# Altium footprint library PcbLib1.PcbLib: 17 footprints (part 1 of 2)
Each footprint in its own frame and in the unit in brackets; x right, y up, seen from the top. Pads: shape width x height; smd on the part's side, far side on the other; paste and mask are expansions set on the pad; w line width, h text height; cw(c..) or ccw(c..) is an arc to the next point about the centre after c.
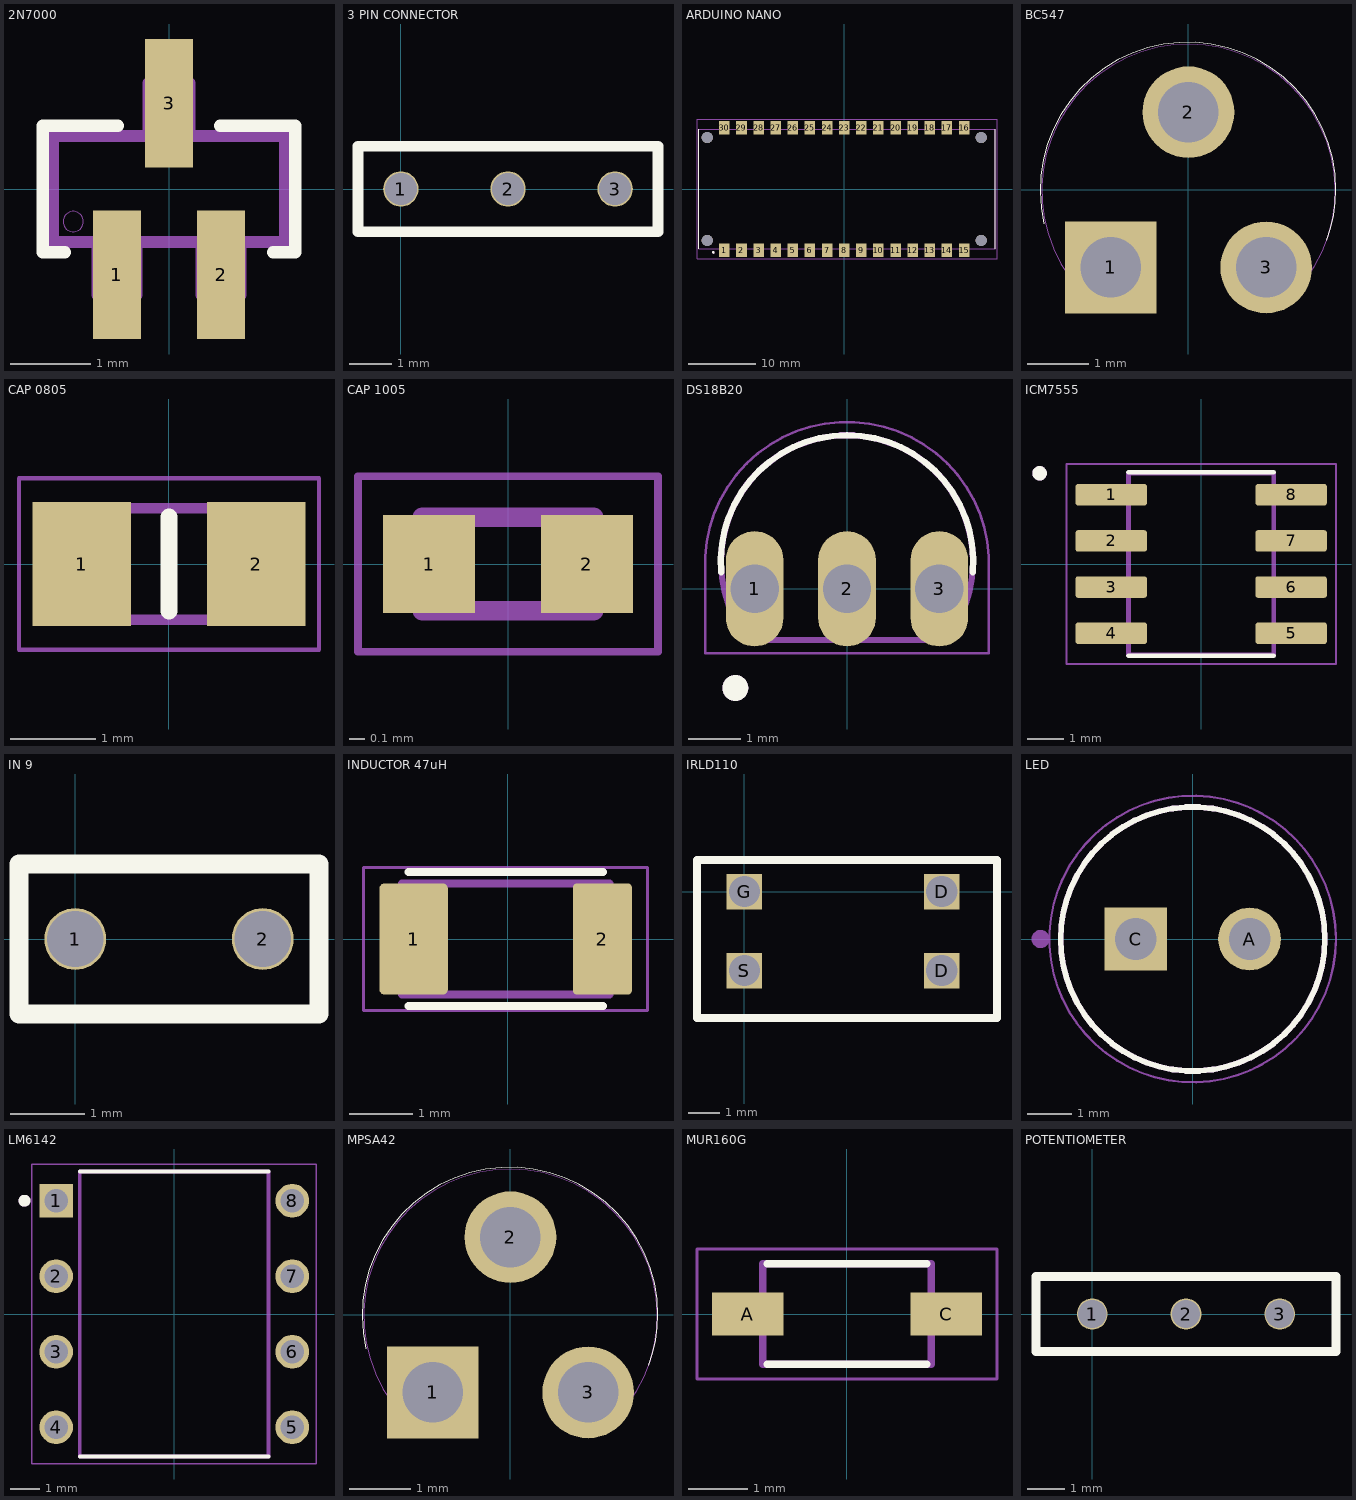
[diagram p0: the footprints below, top view; thin cyan lines are the x and y axes]

## 2N7000 [mm]
pads (3):
  rect 0.6x1.6 smd: 1(-0.65,-1.07) 2(0.65,-1.07) 3(0,1.07)
Top Overlay:
  lines w0.152: -1.295,-0.787 -1.575,-0.787 -1.575,0.787 -0.635,0.787 ; 0.635,0.787 1.575,0.787 1.575,-0.787 1.295,-0.787
Mechanical 13:
  lines w0: -1.321,-0.406 ccw(c-1.194,-0.406) -1.067,-0.406 ccw(c-1.194,-0.406) -1.321,-0.406
  lines w0.152: -1.448,-0.66 1.448,-0.66 1.448,0.66 -1.448,0.66 -1.448,-0.66 ; -0.889,-1.321 -0.889,-0.66 -0.406,-0.66 -0.406,-1.321 -0.889,-1.321 ; -0.254,0.66 0.254,0.66 0.254,1.321 -0.254,1.321 -0.254,0.66 ; 0.406,-1.321 0.406,-0.66 0.889,-0.66 0.889,-1.321 0.406,-1.321

## 3 PIN CONNECTOR [mil]
pads (3):
  round 33 hole 30: 1(0,0) 2(100,0) 3(200,0)
Top Overlay:
  lines w10: -40,-40 -40,40 -30,40 240,40 240,-40 -40,-40

## ARDUINO NANO [mm]
pads (34):
  rect 1.56x2 smd: 1(-17.78,-9.1) 2(-15.24,-9.1) 3(-12.7,-9.1) 4(-10.16,-9.1) 5(-7.62,-9.1) 6(-5.08,-9.1) 7(-2.54,-9.1) 8(0,-9.1) 9(2.54,-9.1) 10(5.08,-9.1) 11(7.62,-9.1) 12(10.16,-9.1) 13(12.7,-9.1) 14(15.24,-9.1) 15(17.78,-9.1) 16(17.78,9.1) 17(15.24,9.1) 18(12.7,9.1) 19(10.16,9.1) 20(7.62,9.1) 21(5.08,9.1) 22(2.54,9.1) 23(0,9.1) 24(-2.54,9.1) 25(-5.08,9.1) 26(-7.62,9.1) 27(-10.16,9.1) 28(-12.7,9.1) 29(-15.24,9.1) 30(-17.78,9.1)
  round 1.651 hole 1.651 unplated: ""(-20.32,-7.62) ""(-20.32,7.62) ""(20.32,-7.62) ""(20.32,7.62)
Top Overlay:
  circle w0.2: c-19.42,-9.4 r0.1
  lines w0.127: -21.59,-8.89 -21.59,8.89 ; 22.41,-8.89 22.41,8.89
Mechanical 13:
  circle w0.2: c-19.42,-9.4 r0.1
  lines w0.127: -21.59,-8.89 -21.59,8.89 ; -21.59,-8.89 -21.59,8.89 ; -21.59,-8.89 22.41,-8.89 22.41,8.89 -21.59,8.89
Mechanical 15:
  lines w0.05: -21.84,-10.35 -21.84,10.35 22.66,10.35 22.66,-10.35 -21.84,-10.35

## BC547 [mil]
pads (3):
  rect 59x59 hole 39: 1(-50,-50)
  round 59 hole 39: 2(0,50) 3(50,-50)
Top Overlay:
  lines w0: -93.07,-21.72 cw(c-0.25,-0.29) 95,-0.29 ; 89.18,-32.52 ccw(c-1.58,0.51) 95,0.51
Mechanical 13:
  lines w0: -76.49,-56.33 cw(c0,-0.76) 75.51,-57.66

## CAP 0805 [mm]
pads (2):
  rect 1.15x1.45 smd: 1(-1.016,0) 2(1.016,0)
Top Overlay:
  lines w0.2: 0,-0.55 0,0.55
Mechanical 13:
  region: 1,-0.65 0.5,-0.65 0.5,0.65 1,0.65
  region: -0.5,-0.65 -1,-0.65 -1,0.65 -0.5,0.65
  lines w0.127: -1,-0.65 -1,0.65 1,0.65 1,-0.65 -1,-0.65
Mechanical 15:
  lines w0.05: -1.75,-1 -1.75,1 1.75,1 1.75,-1 -1.75,-1

## CAP 1005 [mm]
pads (2):
  rect 0.59x0.63 smd: 1(-0.508,0) 2(0.508,0)
Mechanical 13:
  lines w0.127: -0.55,-0.3 -0.55,0.3 0.55,0.3 0.55,-0.3 -0.55,-0.3
Mechanical 15:
  lines w0.05: -0.965,-0.565 -0.965,0.565 0.965,0.565 0.965,-0.565 -0.965,-0.565

## DS18B20 [mm]
pads (3):
  oval 1.11x2.22 hole 0.93: 1(-1.778,0) 2(0,0) 3(1.778,0)
Top Overlay:
  circle w0.25: c-2.15,-1.91 r0.125
  lines w0.12: -2.421,0.317 cw(c0,0.528) 2.421,0.317
Mechanical 13:
  circle w0.25: c-2.15,-1.91 r0.125
  lines w0.12: -1.893,-0.988 1.892,-0.988 ; -1.886,-0.996 cw(c-0.001,0.531) 1.885,-0.996
Mechanical 15:
  lines w0.05: -2.731,0.334 cw(c0,0.477) 2.731,0.334 ; -2.73,0.31 -2.73,-1.24 2.73,-1.24 2.73,0.31

## ICM7555 [mm]
pads (8):
  rrect25% 1.97x0.59 smd: 1(-2.475,1.905) 2(-2.475,0.635) 3(-2.475,-0.635) 4(-2.475,-1.905) 5(2.475,-1.905) 6(2.475,-0.635) 7(2.475,0.635) 8(2.475,1.905)
Top Overlay:
  circle w0.2: c-4.445,2.495 r0.1
  lines w0.127: -2,-2.52 2,-2.52 ; -2,2.52 2,2.52
Mechanical 13:
  circle w0.2: c-4.445,2.495 r0.1
  lines w0.127: -2,-2.5 2,-2.5 2,2.5 -2,2.5 -2,-2.5
Mechanical 15:
  lines w0.05: -3.71,-2.75 3.71,-2.75 3.71,2.75 -3.71,2.75 -3.71,-2.75

## IN 9 [mil]
pads (2):
  round 33 hole 30: 1(0,0) 2(100,0)
Top Overlay:
  lines w10: -30,-40 130,-40 130,40 -30,40 -30,-40

## INDUCTOR 47uH [mm]
pads (2):
  rrect14% 1.09x1.77 smd: 1(-1.502,0)
  rrect14% 0.94x1.77 smd: 2(1.503,0)
Top Overlay:
  lines w0.127: -1.587,-1.065 1.513,-1.065 ; -1.587,1.065 1.513,1.065
Mechanical 13:
  lines w0.127: -1.687,-0.88 1.613,-0.88 1.613,0.88 -1.687,0.88 -1.687,-0.88
Mechanical 15:
  lines w0.05: -2.297,-1.14 2.223,-1.14 2.223,1.14 -2.297,1.14 -2.297,-1.14

## IRLD110 [mm]
pads (4):
  rect 1.14x1.14 hole 1: D(6.35,-2.54) D(6.35,0) G(0,0) S(0,-2.54)
Top Overlay:
  lines w0.254: -1.524,-4.064 -1.524,1.016 -1.27,1.016 8.128,1.016 8.128,-3.556 8.128,-4.064 -1.524,-4.064

## LED [mm]
pads (2):
  round 1.4 hole 0.93: A(1.27,0)
  rect 1.4x1.4 hole 0.93: C(-1.27,0)
Top Overlay:
  circle w0.127: c0,0 r2.95
Mechanical 13:
  circle w0.2: c-3.4,0 r0.1
  circle w0.127: c0,0 r2.95
Mechanical 15:
  circle w0.05: c0,0 r3.2

## LM6142 [mm]
pads (8):
  rect 1.13x1.13 hole 0.78: 1(-3.97,3.81)
  round 1.13 hole 0.78: 2(-3.97,1.27) 3(-3.97,-1.27) 4(-3.97,-3.81) 5(3.97,-3.81) 6(3.97,-1.27) 7(3.97,1.27) 8(3.97,3.81)
Top Overlay:
  circle w0.2: c-5.035,3.81 r0.1
  lines w0.127: -3.175,-4.795 3.175,-4.795 ; -3.175,4.795 3.175,4.795
Mechanical 13:
  circle w0.2: c-5.035,3.81 r0.1
  lines w0.127: -3.175,-4.795 -3.175,4.795 3.175,4.795 3.175,-4.795 -3.175,-4.795
Mechanical 15:
  lines w0.05: -4.785,-5.045 -4.785,5.045 4.785,5.045 4.785,-5.045 -4.785,-5.045
3D body "step_temp.STEP": height 5.33, standoff -3.81, extent -4.635,-5.46 4.635,5.46

## MPSA42 [mil]
pads (3):
  rect 59x59 hole 39: 1(-50,-50)
  round 59 hole 39: 2(0,50) 3(50,-50)
Top Overlay:
  lines w0: -93.07,-21.72 cw(c-0.25,-0.29) 95,-0.29 ; 89.18,-32.52 ccw(c-1.58,0.51) 95,0.51
Mechanical 13:
  lines w0: -76.49,-56.33 cw(c0,-0.76) 75.51,-57.66

## MUR160G [mm]
pads (2):
  rect 1.21x0.72 smd: A(-1.68,0) C(1.68,0)
Top Overlay:
  lines w0.127: -1.35,-0.85 1.35,-0.85 ; -1.35,0.85 1.35,0.85
Mechanical 13:
  lines w0.127: -1.43,-0.85 -1.43,0.85 1.43,0.85 1.43,-0.85 -1.43,-0.85
Mechanical 15:
  lines w0.05: -2.54,-1.1 -2.54,1.1 2.54,1.1 2.54,-1.1 -2.54,-1.1

## POTENTIOMETER [mil]
pads (3):
  round 33 hole 30: 1(0,0) 2(100,0) 3(200,0)
Top Overlay:
  lines w10: -60,-40 -60,40 260,40 260,32.22 260,-40 -60,-40